# EAGLE library part 28DP- (library Chips)
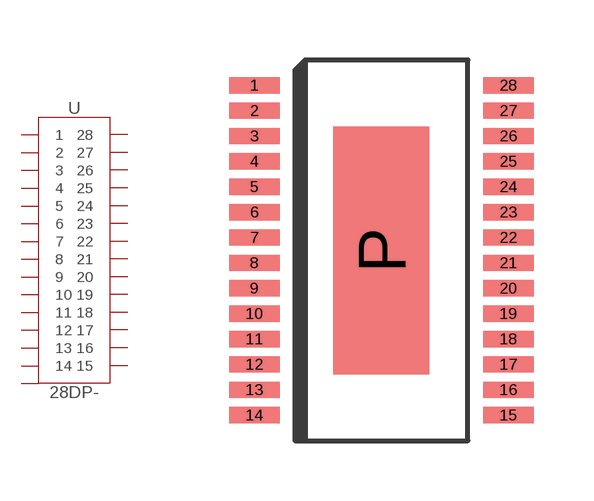
[diagram p25: symbol with the pads of 28SSOP_5.6MM+P; footprint 28SSOP_5.6MM+P]

Designator prefix U

## 28DP-SSOP_5.6MM  [28SSOP_5.6MM+P]
1  1
2  2
3  3
4  4
5  5
6  6
7  7
8  8
9  9
10  10
11  11
12  12
13  13
14  14
15  15
16  16
17  17
18  18
19  19
20  20
21  21
22  22
23  23
24  24
25  25
26  26
27  27
28  28
P  P

## Footprint 28SSOP_5.6MM+P (pad centres in mm)
smd 1.27 x 0.406: 1 -3.175,4.128; 2 -3.175,3.493; 3 -3.175,2.857; 4 -3.175,2.223; 5 -3.175,1.587; 6 -3.175,0.953; 7 -3.175,0.318; 8 -3.175,-0.318; 9 -3.175,-0.953; 10 -3.175,-1.587; 11 -3.175,-2.223; 12 -3.175,-2.857; 13 -3.175,-3.493; 14 -3.175,-4.128; 15 3.175,-4.128; 16 3.175,-3.493; 17 3.175,-2.857; 18 3.175,-2.223; 19 3.175,-1.587; 20 3.175,-0.953; 21 3.175,-0.318; 22 3.175,0.318; 23 3.175,0.953; 24 3.175,1.587; 25 3.175,2.223; 26 3.175,2.857; 27 3.175,3.493; 28 3.175,4.128
smd 2.4 x 6.2: P 0,0